# Altium integrated library Renesas Diode.IntLib: 1609 symbols (part 21 of 31)
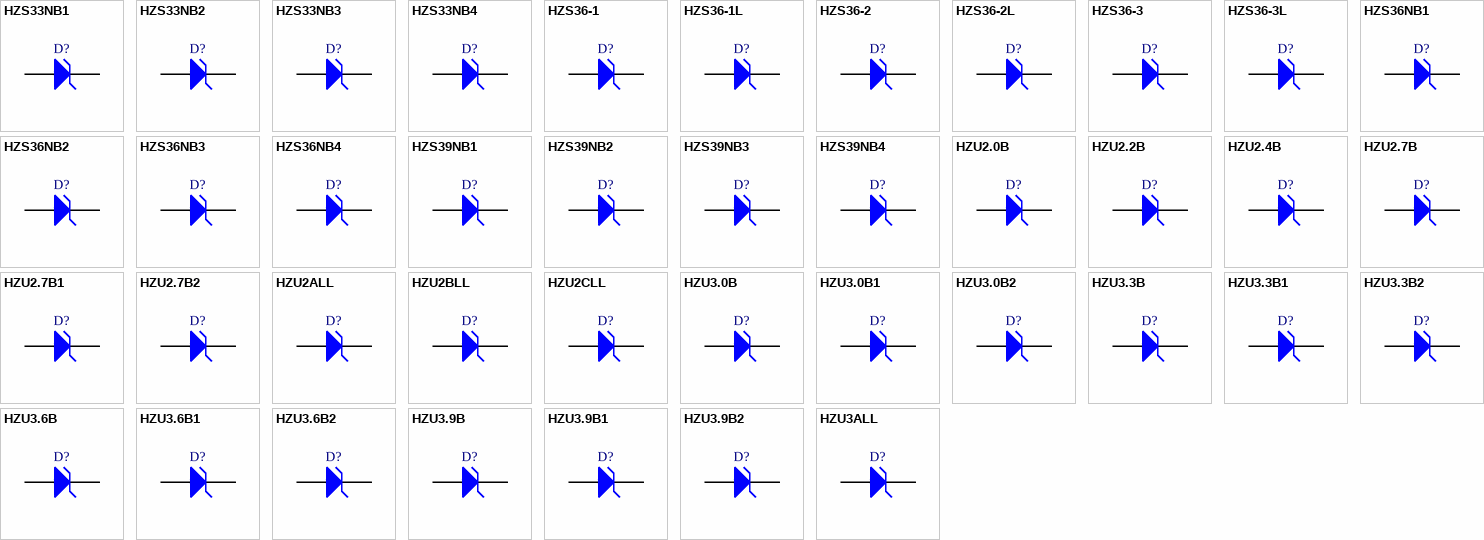
[diagram p65: symbols HZS33NB1 to HZU3ALL]

## HZU2.4B
designator D?
Silicon Epitaxial Planar Zener Diodes for Stabilizer; Published: 12-Feb-2010; DatasheetVersion: Rev.9.00, Jul-2006; PackageVersion: Sep-2005; PackageReference: PTSP0002ZA-A; Publisher: Altium Limited; PackageDescription: 2-Pin SC-76 Package, 1.7 x 1.3 mm Body; Code_JEITA: SC-76A; ComponentLink1Description: Manufacturer Link; ComponentLink1URL: http://sg.renesas.com/fmwk.jsp?cnt=diode_landing.jsp&fp=/products/discrete/diodes/; ComponentLink2Description: Datasheet; ComponentLink2URL: http://documentation.renesas.com/eng/products/diode/rej03g0625_hzu.pdf; ComponentLink3Description: Packaging Specification; ComponentLink3URL: http://sg.renesas.com/media/products/common_info/package/pdf/diode/code/ptsp0002za_a.pdf
footprint PTSP0002ZA-A (SC-76; 2 Leads; Body 1.7x1.3mm, Renesas Recommended)
signal-integrity model HZU2.4B
pins: 1 K, 2 A

## HZU2.7B
designator D?
Silicon Epitaxial Planar Zener Diodes for Stabilizer; Published: 12-Feb-2010; DatasheetVersion: Rev.9.00, Jul-2006; PackageVersion: Sep-2005; PackageReference: PTSP0002ZA-A; Publisher: Altium Limited; PackageDescription: 2-Pin SC-76 Package, 1.7 x 1.3 mm Body; Code_JEITA: SC-76A; ComponentLink1Description: Manufacturer Link; ComponentLink1URL: http://sg.renesas.com/fmwk.jsp?cnt=diode_landing.jsp&fp=/products/discrete/diodes/; ComponentLink2Description: Datasheet; ComponentLink2URL: http://documentation.renesas.com/eng/products/diode/rej03g0625_hzu.pdf; ComponentLink3Description: Packaging Specification; ComponentLink3URL: http://sg.renesas.com/media/products/common_info/package/pdf/diode/code/ptsp0002za_a.pdf
footprint PTSP0002ZA-A (SC-76; 2 Leads; Body 1.7x1.3mm, Renesas Recommended)
signal-integrity model HZU2.7B
pins: 1 K, 2 A

## HZU2.7B1
designator D?
Silicon Epitaxial Planar Zener Diodes for Stabilizer; Published: 12-Feb-2010; DatasheetVersion: Rev.9.00, Jul-2006; PackageVersion: Sep-2005; PackageReference: PTSP0002ZA-A; Publisher: Altium Limited; PackageDescription: 2-Pin SC-76 Package, 1.7 x 1.3 mm Body; Code_JEITA: SC-76A; ComponentLink1Description: Manufacturer Link; ComponentLink1URL: http://sg.renesas.com/fmwk.jsp?cnt=diode_landing.jsp&fp=/products/discrete/diodes/; ComponentLink2Description: Datasheet; ComponentLink2URL: http://documentation.renesas.com/eng/products/diode/rej03g0625_hzu.pdf; ComponentLink3Description: Packaging Specification; ComponentLink3URL: http://sg.renesas.com/media/products/common_info/package/pdf/diode/code/ptsp0002za_a.pdf
footprint PTSP0002ZA-A (SC-76; 2 Leads; Body 1.7x1.3mm, Renesas Recommended)
signal-integrity model HZU2.7B1
pins: 1 K, 2 A

## HZU2.7B2
designator D?
Silicon Epitaxial Planar Zener Diodes for Stabilizer; Published: 12-Feb-2010; DatasheetVersion: Rev.9.00, Jul-2006; PackageVersion: Sep-2005; PackageReference: PTSP0002ZA-A; Publisher: Altium Limited; PackageDescription: 2-Pin SC-76 Package, 1.7 x 1.3 mm Body; Code_JEITA: SC-76A; ComponentLink1Description: Manufacturer Link; ComponentLink1URL: http://sg.renesas.com/fmwk.jsp?cnt=diode_landing.jsp&fp=/products/discrete/diodes/; ComponentLink2Description: Datasheet; ComponentLink2URL: http://documentation.renesas.com/eng/products/diode/rej03g0625_hzu.pdf; ComponentLink3Description: Packaging Specification; ComponentLink3URL: http://sg.renesas.com/media/products/common_info/package/pdf/diode/code/ptsp0002za_a.pdf
footprint PTSP0002ZA-A (SC-76; 2 Leads; Body 1.7x1.3mm, Renesas Recommended)
signal-integrity model HZU2.7B2
pins: 1 K, 2 A

## HZU2ALL
designator D?
Silicon Epitaxial Planar Zener Diode for Hard Knee Low Noise; Published: 12-Feb-2010; DatasheetVersion: Rev.5.00, Oct-2007; PackageVersion: Sep-2005; PackageReference: PTSP0002ZA-A; Publisher: Altium Limited; PackageDescription: 2-Pin SC-76 Package, 1.7 x 1.3 mm Body; Code_JEITA: SC-76A; ComponentLink1Description: Manufacturer Link; ComponentLink1URL: http://sg.renesas.com/fmwk.jsp?cnt=diode_landing.jsp&fp=/products/discrete/diodes/; ComponentLink2Description: Datasheet; ComponentLink2URL: http://documentation.renesas.com/eng/products/diode/rej03g1216_hzu_llseries.pdf; ComponentLink3Description: Packaging Specification; ComponentLink3URL: http://sg.renesas.com/media/products/common_info/package/pdf/diode/code/ptsp0002za_a.pdf
footprint PTSP0002ZA-A (SC-76; 2 Leads; Body 1.7x1.3mm, Renesas Recommended)
signal-integrity model HZU2ALL
pins: 1 K, 2 A

## HZU2BLL
designator D?
Silicon Epitaxial Planar Zener Diode for Hard Knee Low Noise; Published: 12-Feb-2010; DatasheetVersion: Rev.5.00, Oct-2007; PackageVersion: Sep-2005; PackageReference: PTSP0002ZA-A; Publisher: Altium Limited; PackageDescription: 2-Pin SC-76 Package, 1.7 x 1.3 mm Body; Code_JEITA: SC-76A; ComponentLink1Description: Manufacturer Link; ComponentLink1URL: http://sg.renesas.com/fmwk.jsp?cnt=diode_landing.jsp&fp=/products/discrete/diodes/; ComponentLink2Description: Datasheet; ComponentLink2URL: http://documentation.renesas.com/eng/products/diode/rej03g1216_hzu_llseries.pdf; ComponentLink3Description: Packaging Specification; ComponentLink3URL: http://sg.renesas.com/media/products/common_info/package/pdf/diode/code/ptsp0002za_a.pdf
footprint PTSP0002ZA-A (SC-76; 2 Leads; Body 1.7x1.3mm, Renesas Recommended)
signal-integrity model HZU2BLL
pins: 1 K, 2 A

## HZU2CLL
designator D?
Silicon Epitaxial Planar Zener Diode for Hard Knee Low Noise; Published: 12-Feb-2010; DatasheetVersion: Rev.5.00, Oct-2007; PackageVersion: Sep-2005; PackageReference: PTSP0002ZA-A; Publisher: Altium Limited; PackageDescription: 2-Pin SC-76 Package, 1.7 x 1.3 mm Body; Code_JEITA: SC-76A; ComponentLink1Description: Manufacturer Link; ComponentLink1URL: http://sg.renesas.com/fmwk.jsp?cnt=diode_landing.jsp&fp=/products/discrete/diodes/; ComponentLink2Description: Datasheet; ComponentLink2URL: http://documentation.renesas.com/eng/products/diode/rej03g1216_hzu_llseries.pdf; ComponentLink3Description: Packaging Specification; ComponentLink3URL: http://sg.renesas.com/media/products/common_info/package/pdf/diode/code/ptsp0002za_a.pdf
footprint PTSP0002ZA-A (SC-76; 2 Leads; Body 1.7x1.3mm, Renesas Recommended)
signal-integrity model HZU2CLL
pins: 1 K, 2 A

## HZU3.0B
designator D?
Silicon Epitaxial Planar Zener Diodes for Stabilizer; Published: 12-Feb-2010; DatasheetVersion: Rev.9.00, Jul-2006; PackageVersion: Sep-2005; PackageReference: PTSP0002ZA-A; Publisher: Altium Limited; PackageDescription: 2-Pin SC-76 Package, 1.7 x 1.3 mm Body; Code_JEITA: SC-76A; ComponentLink1Description: Manufacturer Link; ComponentLink1URL: http://sg.renesas.com/fmwk.jsp?cnt=diode_landing.jsp&fp=/products/discrete/diodes/; ComponentLink2Description: Datasheet; ComponentLink2URL: http://documentation.renesas.com/eng/products/diode/rej03g0625_hzu.pdf; ComponentLink3Description: Packaging Specification; ComponentLink3URL: http://sg.renesas.com/media/products/common_info/package/pdf/diode/code/ptsp0002za_a.pdf
footprint PTSP0002ZA-A (SC-76; 2 Leads; Body 1.7x1.3mm, Renesas Recommended)
signal-integrity model HZU3.0B
pins: 1 K, 2 A

## HZU3.0B1
designator D?
Silicon Epitaxial Planar Zener Diodes for Stabilizer; Published: 12-Feb-2010; DatasheetVersion: Rev.9.00, Jul-2006; PackageVersion: Sep-2005; PackageReference: PTSP0002ZA-A; Publisher: Altium Limited; PackageDescription: 2-Pin SC-76 Package, 1.7 x 1.3 mm Body; Code_JEITA: SC-76A; ComponentLink1Description: Manufacturer Link; ComponentLink1URL: http://sg.renesas.com/fmwk.jsp?cnt=diode_landing.jsp&fp=/products/discrete/diodes/; ComponentLink2Description: Datasheet; ComponentLink2URL: http://documentation.renesas.com/eng/products/diode/rej03g0625_hzu.pdf; ComponentLink3Description: Packaging Specification; ComponentLink3URL: http://sg.renesas.com/media/products/common_info/package/pdf/diode/code/ptsp0002za_a.pdf
footprint PTSP0002ZA-A (SC-76; 2 Leads; Body 1.7x1.3mm, Renesas Recommended)
signal-integrity model HZU3.0B1
pins: 1 K, 2 A

## HZU3.0B2
designator D?
Silicon Epitaxial Planar Zener Diodes for Stabilizer; Published: 12-Feb-2010; DatasheetVersion: Rev.9.00, Jul-2006; PackageVersion: Sep-2005; PackageReference: PTSP0002ZA-A; Publisher: Altium Limited; PackageDescription: 2-Pin SC-76 Package, 1.7 x 1.3 mm Body; Code_JEITA: SC-76A; ComponentLink1Description: Manufacturer Link; ComponentLink1URL: http://sg.renesas.com/fmwk.jsp?cnt=diode_landing.jsp&fp=/products/discrete/diodes/; ComponentLink2Description: Datasheet; ComponentLink2URL: http://documentation.renesas.com/eng/products/diode/rej03g0625_hzu.pdf; ComponentLink3Description: Packaging Specification; ComponentLink3URL: http://sg.renesas.com/media/products/common_info/package/pdf/diode/code/ptsp0002za_a.pdf
footprint PTSP0002ZA-A (SC-76; 2 Leads; Body 1.7x1.3mm, Renesas Recommended)
signal-integrity model HZU3.0B2
pins: 1 K, 2 A

## HZU3.3B
designator D?
Silicon Epitaxial Planar Zener Diodes for Stabilizer; Published: 12-Feb-2010; DatasheetVersion: Rev.9.00, Jul-2006; PackageVersion: Sep-2005; PackageReference: PTSP0002ZA-A; Publisher: Altium Limited; PackageDescription: 2-Pin SC-76 Package, 1.7 x 1.3 mm Body; Code_JEITA: SC-76A; ComponentLink1Description: Manufacturer Link; ComponentLink1URL: http://sg.renesas.com/fmwk.jsp?cnt=diode_landing.jsp&fp=/products/discrete/diodes/; ComponentLink2Description: Datasheet; ComponentLink2URL: http://documentation.renesas.com/eng/products/diode/rej03g0625_hzu.pdf; ComponentLink3Description: Packaging Specification; ComponentLink3URL: http://sg.renesas.com/media/products/common_info/package/pdf/diode/code/ptsp0002za_a.pdf
footprint PTSP0002ZA-A (SC-76; 2 Leads; Body 1.7x1.3mm, Renesas Recommended)
signal-integrity model HZU3.3B
pins: 1 K, 2 A

## HZU3.3B1
designator D?
Silicon Epitaxial Planar Zener Diodes for Stabilizer; Published: 12-Feb-2010; DatasheetVersion: Rev.9.00, Jul-2006; PackageVersion: Sep-2005; PackageReference: PTSP0002ZA-A; Publisher: Altium Limited; PackageDescription: 2-Pin SC-76 Package, 1.7 x 1.3 mm Body; Code_JEITA: SC-76A; ComponentLink1Description: Manufacturer Link; ComponentLink1URL: http://sg.renesas.com/fmwk.jsp?cnt=diode_landing.jsp&fp=/products/discrete/diodes/; ComponentLink2Description: Datasheet; ComponentLink2URL: http://documentation.renesas.com/eng/products/diode/rej03g0625_hzu.pdf; ComponentLink3Description: Packaging Specification; ComponentLink3URL: http://sg.renesas.com/media/products/common_info/package/pdf/diode/code/ptsp0002za_a.pdf
footprint PTSP0002ZA-A (SC-76; 2 Leads; Body 1.7x1.3mm, Renesas Recommended)
signal-integrity model HZU3.3B1
pins: 1 K, 2 A

## HZU3.3B2
designator D?
Silicon Epitaxial Planar Zener Diodes for Stabilizer; Published: 12-Feb-2010; DatasheetVersion: Rev.9.00, Jul-2006; PackageVersion: Sep-2005; PackageReference: PTSP0002ZA-A; Publisher: Altium Limited; PackageDescription: 2-Pin SC-76 Package, 1.7 x 1.3 mm Body; Code_JEITA: SC-76A; ComponentLink1Description: Manufacturer Link; ComponentLink1URL: http://sg.renesas.com/fmwk.jsp?cnt=diode_landing.jsp&fp=/products/discrete/diodes/; ComponentLink2Description: Datasheet; ComponentLink2URL: http://documentation.renesas.com/eng/products/diode/rej03g0625_hzu.pdf; ComponentLink3Description: Packaging Specification; ComponentLink3URL: http://sg.renesas.com/media/products/common_info/package/pdf/diode/code/ptsp0002za_a.pdf
footprint PTSP0002ZA-A (SC-76; 2 Leads; Body 1.7x1.3mm, Renesas Recommended)
signal-integrity model HZU3.3B2
pins: 1 K, 2 A

## HZU3.6B
designator D?
Silicon Epitaxial Planar Zener Diodes for Stabilizer; Published: 12-Feb-2010; DatasheetVersion: Rev.9.00, Jul-2006; PackageVersion: Sep-2005; PackageReference: PTSP0002ZA-A; Publisher: Altium Limited; PackageDescription: 2-Pin SC-76 Package, 1.7 x 1.3 mm Body; Code_JEITA: SC-76A; ComponentLink1Description: Manufacturer Link; ComponentLink1URL: http://sg.renesas.com/fmwk.jsp?cnt=diode_landing.jsp&fp=/products/discrete/diodes/; ComponentLink2Description: Datasheet; ComponentLink2URL: http://documentation.renesas.com/eng/products/diode/rej03g0625_hzu.pdf; ComponentLink3Description: Packaging Specification; ComponentLink3URL: http://sg.renesas.com/media/products/common_info/package/pdf/diode/code/ptsp0002za_a.pdf
footprint PTSP0002ZA-A (SC-76; 2 Leads; Body 1.7x1.3mm, Renesas Recommended)
signal-integrity model HZU3.6B
pins: 1 K, 2 A

## HZU3.6B1
designator D?
Silicon Epitaxial Planar Zener Diodes for Stabilizer; Published: 12-Feb-2010; DatasheetVersion: Rev.9.00, Jul-2006; PackageVersion: Sep-2005; PackageReference: PTSP0002ZA-A; Publisher: Altium Limited; PackageDescription: 2-Pin SC-76 Package, 1.7 x 1.3 mm Body; Code_JEITA: SC-76A; ComponentLink1Description: Manufacturer Link; ComponentLink1URL: http://sg.renesas.com/fmwk.jsp?cnt=diode_landing.jsp&fp=/products/discrete/diodes/; ComponentLink2Description: Datasheet; ComponentLink2URL: http://documentation.renesas.com/eng/products/diode/rej03g0625_hzu.pdf; ComponentLink3Description: Packaging Specification; ComponentLink3URL: http://sg.renesas.com/media/products/common_info/package/pdf/diode/code/ptsp0002za_a.pdf
footprint PTSP0002ZA-A (SC-76; 2 Leads; Body 1.7x1.3mm, Renesas Recommended)
signal-integrity model HZU3.6B1
pins: 1 K, 2 A

## HZU3.6B2
designator D?
Silicon Epitaxial Planar Zener Diodes for Stabilizer; Published: 12-Feb-2010; DatasheetVersion: Rev.9.00, Jul-2006; PackageVersion: Sep-2005; PackageReference: PTSP0002ZA-A; Publisher: Altium Limited; PackageDescription: 2-Pin SC-76 Package, 1.7 x 1.3 mm Body; Code_JEITA: SC-76A; ComponentLink1Description: Manufacturer Link; ComponentLink1URL: http://sg.renesas.com/fmwk.jsp?cnt=diode_landing.jsp&fp=/products/discrete/diodes/; ComponentLink2Description: Datasheet; ComponentLink2URL: http://documentation.renesas.com/eng/products/diode/rej03g0625_hzu.pdf; ComponentLink3Description: Packaging Specification; ComponentLink3URL: http://sg.renesas.com/media/products/common_info/package/pdf/diode/code/ptsp0002za_a.pdf
footprint PTSP0002ZA-A (SC-76; 2 Leads; Body 1.7x1.3mm, Renesas Recommended)
signal-integrity model HZU3.6B2
pins: 1 K, 2 A

## HZU3.9B
designator D?
Silicon Epitaxial Planar Zener Diodes for Stabilizer; Published: 12-Feb-2010; DatasheetVersion: Rev.9.00, Jul-2006; PackageVersion: Sep-2005; PackageReference: PTSP0002ZA-A; Publisher: Altium Limited; PackageDescription: 2-Pin SC-76 Package, 1.7 x 1.3 mm Body; Code_JEITA: SC-76A; ComponentLink1Description: Manufacturer Link; ComponentLink1URL: http://sg.renesas.com/fmwk.jsp?cnt=diode_landing.jsp&fp=/products/discrete/diodes/; ComponentLink2Description: Datasheet; ComponentLink2URL: http://documentation.renesas.com/eng/products/diode/rej03g0625_hzu.pdf; ComponentLink3Description: Packaging Specification; ComponentLink3URL: http://sg.renesas.com/media/products/common_info/package/pdf/diode/code/ptsp0002za_a.pdf
footprint PTSP0002ZA-A (SC-76; 2 Leads; Body 1.7x1.3mm, Renesas Recommended)
signal-integrity model HZU3.9B
pins: 1 K, 2 A

## HZU3.9B1
designator D?
Silicon Epitaxial Planar Zener Diodes for Stabilizer; Published: 12-Feb-2010; DatasheetVersion: Rev.9.00, Jul-2006; PackageVersion: Sep-2005; PackageReference: PTSP0002ZA-A; Publisher: Altium Limited; PackageDescription: 2-Pin SC-76 Package, 1.7 x 1.3 mm Body; Code_JEITA: SC-76A; ComponentLink1Description: Manufacturer Link; ComponentLink1URL: http://sg.renesas.com/fmwk.jsp?cnt=diode_landing.jsp&fp=/products/discrete/diodes/; ComponentLink2Description: Datasheet; ComponentLink2URL: http://documentation.renesas.com/eng/products/diode/rej03g0625_hzu.pdf; ComponentLink3Description: Packaging Specification; ComponentLink3URL: http://sg.renesas.com/media/products/common_info/package/pdf/diode/code/ptsp0002za_a.pdf
footprint PTSP0002ZA-A (SC-76; 2 Leads; Body 1.7x1.3mm, Renesas Recommended)
signal-integrity model HZU3.9B1
pins: 1 K, 2 A

## HZU3.9B2
designator D?
Silicon Epitaxial Planar Zener Diodes for Stabilizer; Published: 12-Feb-2010; DatasheetVersion: Rev.9.00, Jul-2006; PackageVersion: Sep-2005; PackageReference: PTSP0002ZA-A; Publisher: Altium Limited; PackageDescription: 2-Pin SC-76 Package, 1.7 x 1.3 mm Body; Code_JEITA: SC-76A; ComponentLink1Description: Manufacturer Link; ComponentLink1URL: http://sg.renesas.com/fmwk.jsp?cnt=diode_landing.jsp&fp=/products/discrete/diodes/; ComponentLink2Description: Datasheet; ComponentLink2URL: http://documentation.renesas.com/eng/products/diode/rej03g0625_hzu.pdf; ComponentLink3Description: Packaging Specification; ComponentLink3URL: http://sg.renesas.com/media/products/common_info/package/pdf/diode/code/ptsp0002za_a.pdf
footprint PTSP0002ZA-A (SC-76; 2 Leads; Body 1.7x1.3mm, Renesas Recommended)
signal-integrity model HZU3.9B2
pins: 1 K, 2 A

## HZU3ALL
designator D?
Silicon Epitaxial Planar Zener Diode for Hard Knee Low Noise; Published: 12-Feb-2010; DatasheetVersion: Rev.5.00, Oct-2007; PackageVersion: Sep-2005; PackageReference: PTSP0002ZA-A; Publisher: Altium Limited; PackageDescription: 2-Pin SC-76 Package, 1.7 x 1.3 mm Body; Code_JEITA: SC-76A; ComponentLink1Description: Manufacturer Link; ComponentLink1URL: http://sg.renesas.com/fmwk.jsp?cnt=diode_landing.jsp&fp=/products/discrete/diodes/; ComponentLink2Description: Datasheet; ComponentLink2URL: http://documentation.renesas.com/eng/products/diode/rej03g1216_hzu_llseries.pdf; ComponentLink3Description: Packaging Specification; ComponentLink3URL: http://sg.renesas.com/media/products/common_info/package/pdf/diode/code/ptsp0002za_a.pdf
footprint PTSP0002ZA-A (SC-76; 2 Leads; Body 1.7x1.3mm, Renesas Recommended)
signal-integrity model HZU3ALL
pins: 1 K, 2 A

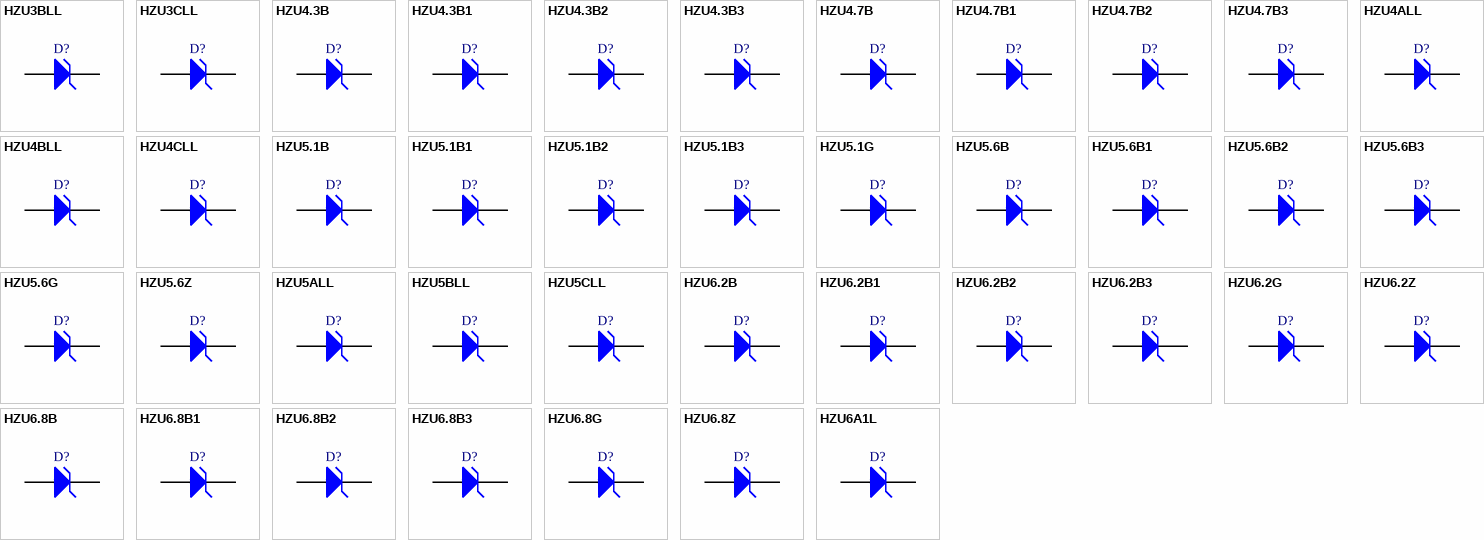
[diagram p29: symbols HZU3BLL to HZU6A1L]

## HZU3BLL
designator D?
Silicon Epitaxial Planar Zener Diode for Hard Knee Low Noise; Published: 12-Feb-2010; DatasheetVersion: Rev.5.00, Oct-2007; PackageVersion: Sep-2005; PackageReference: PTSP0002ZA-A; Publisher: Altium Limited; PackageDescription: 2-Pin SC-76 Package, 1.7 x 1.3 mm Body; Code_JEITA: SC-76A; ComponentLink1Description: Manufacturer Link; ComponentLink1URL: http://sg.renesas.com/fmwk.jsp?cnt=diode_landing.jsp&fp=/products/discrete/diodes/; ComponentLink2Description: Datasheet; ComponentLink2URL: http://documentation.renesas.com/eng/products/diode/rej03g1216_hzu_llseries.pdf; ComponentLink3Description: Packaging Specification; ComponentLink3URL: http://sg.renesas.com/media/products/common_info/package/pdf/diode/code/ptsp0002za_a.pdf
footprint PTSP0002ZA-A (SC-76; 2 Leads; Body 1.7x1.3mm, Renesas Recommended)
signal-integrity model HZU3BLL
pins: 1 K, 2 A

## HZU3CLL
designator D?
Silicon Epitaxial Planar Zener Diode for Hard Knee Low Noise; Published: 12-Feb-2010; DatasheetVersion: Rev.5.00, Oct-2007; PackageVersion: Sep-2005; PackageReference: PTSP0002ZA-A; Publisher: Altium Limited; PackageDescription: 2-Pin SC-76 Package, 1.7 x 1.3 mm Body; Code_JEITA: SC-76A; ComponentLink1Description: Manufacturer Link; ComponentLink1URL: http://sg.renesas.com/fmwk.jsp?cnt=diode_landing.jsp&fp=/products/discrete/diodes/; ComponentLink2Description: Datasheet; ComponentLink2URL: http://documentation.renesas.com/eng/products/diode/rej03g1216_hzu_llseries.pdf; ComponentLink3Description: Packaging Specification; ComponentLink3URL: http://sg.renesas.com/media/products/common_info/package/pdf/diode/code/ptsp0002za_a.pdf
footprint PTSP0002ZA-A (SC-76; 2 Leads; Body 1.7x1.3mm, Renesas Recommended)
signal-integrity model HZU3CLL
pins: 1 K, 2 A

## HZU4.3B
designator D?
Silicon Epitaxial Planar Zener Diodes for Stabilizer; Published: 12-Feb-2010; DatasheetVersion: Rev.9.00, Jul-2006; PackageVersion: Sep-2005; PackageReference: PTSP0002ZA-A; Publisher: Altium Limited; PackageDescription: 2-Pin SC-76 Package, 1.7 x 1.3 mm Body; Code_JEITA: SC-76A; ComponentLink1Description: Manufacturer Link; ComponentLink1URL: http://sg.renesas.com/fmwk.jsp?cnt=diode_landing.jsp&fp=/products/discrete/diodes/; ComponentLink2Description: Datasheet; ComponentLink2URL: http://documentation.renesas.com/eng/products/diode/rej03g0625_hzu.pdf; ComponentLink3Description: Packaging Specification; ComponentLink3URL: http://sg.renesas.com/media/products/common_info/package/pdf/diode/code/ptsp0002za_a.pdf
footprint PTSP0002ZA-A (SC-76; 2 Leads; Body 1.7x1.3mm, Renesas Recommended)
signal-integrity model HZU4.3B
pins: 1 K, 2 A

## HZU4.3B1
designator D?
Silicon Epitaxial Planar Zener Diodes for Stabilizer; Published: 12-Feb-2010; DatasheetVersion: Rev.9.00, Jul-2006; PackageVersion: Sep-2005; PackageReference: PTSP0002ZA-A; Publisher: Altium Limited; PackageDescription: 2-Pin SC-76 Package, 1.7 x 1.3 mm Body; Code_JEITA: SC-76A; ComponentLink1Description: Manufacturer Link; ComponentLink1URL: http://sg.renesas.com/fmwk.jsp?cnt=diode_landing.jsp&fp=/products/discrete/diodes/; ComponentLink2Description: Datasheet; ComponentLink2URL: http://documentation.renesas.com/eng/products/diode/rej03g0625_hzu.pdf; ComponentLink3Description: Packaging Specification; ComponentLink3URL: http://sg.renesas.com/media/products/common_info/package/pdf/diode/code/ptsp0002za_a.pdf
footprint PTSP0002ZA-A (SC-76; 2 Leads; Body 1.7x1.3mm, Renesas Recommended)
signal-integrity model HZU4.3B1
pins: 1 K, 2 A

## HZU4.3B2
designator D?
Silicon Epitaxial Planar Zener Diodes for Stabilizer; Published: 12-Feb-2010; DatasheetVersion: Rev.9.00, Jul-2006; PackageVersion: Sep-2005; PackageReference: PTSP0002ZA-A; Publisher: Altium Limited; PackageDescription: 2-Pin SC-76 Package, 1.7 x 1.3 mm Body; Code_JEITA: SC-76A; ComponentLink1Description: Manufacturer Link; ComponentLink1URL: http://sg.renesas.com/fmwk.jsp?cnt=diode_landing.jsp&fp=/products/discrete/diodes/; ComponentLink2Description: Datasheet; ComponentLink2URL: http://documentation.renesas.com/eng/products/diode/rej03g0625_hzu.pdf; ComponentLink3Description: Packaging Specification; ComponentLink3URL: http://sg.renesas.com/media/products/common_info/package/pdf/diode/code/ptsp0002za_a.pdf
footprint PTSP0002ZA-A (SC-76; 2 Leads; Body 1.7x1.3mm, Renesas Recommended)
signal-integrity model HZU4.3B2
pins: 1 K, 2 A

## HZU4.3B3
designator D?
Silicon Epitaxial Planar Zener Diodes for Stabilizer; Published: 12-Feb-2010; DatasheetVersion: Rev.9.00, Jul-2006; PackageVersion: Sep-2005; PackageReference: PTSP0002ZA-A; Publisher: Altium Limited; PackageDescription: 2-Pin SC-76 Package, 1.7 x 1.3 mm Body; Code_JEITA: SC-76A; ComponentLink1Description: Manufacturer Link; ComponentLink1URL: http://sg.renesas.com/fmwk.jsp?cnt=diode_landing.jsp&fp=/products/discrete/diodes/; ComponentLink2Description: Datasheet; ComponentLink2URL: http://documentation.renesas.com/eng/products/diode/rej03g0625_hzu.pdf; ComponentLink3Description: Packaging Specification; ComponentLink3URL: http://sg.renesas.com/media/products/common_info/package/pdf/diode/code/ptsp0002za_a.pdf
footprint PTSP0002ZA-A (SC-76; 2 Leads; Body 1.7x1.3mm, Renesas Recommended)
signal-integrity model HZU4.3B3
pins: 1 K, 2 A

## HZU4.7B
designator D?
Silicon Epitaxial Planar Zener Diodes for Stabilizer; Published: 12-Feb-2010; DatasheetVersion: Rev.9.00, Jul-2006; PackageVersion: Sep-2005; PackageReference: PTSP0002ZA-A; Publisher: Altium Limited; PackageDescription: 2-Pin SC-76 Package, 1.7 x 1.3 mm Body; Code_JEITA: SC-76A; ComponentLink1Description: Manufacturer Link; ComponentLink1URL: http://sg.renesas.com/fmwk.jsp?cnt=diode_landing.jsp&fp=/products/discrete/diodes/; ComponentLink2Description: Datasheet; ComponentLink2URL: http://documentation.renesas.com/eng/products/diode/rej03g0625_hzu.pdf; ComponentLink3Description: Packaging Specification; ComponentLink3URL: http://sg.renesas.com/media/products/common_info/package/pdf/diode/code/ptsp0002za_a.pdf
footprint PTSP0002ZA-A (SC-76; 2 Leads; Body 1.7x1.3mm, Renesas Recommended)
signal-integrity model HZU4.7B
pins: 1 K, 2 A

## HZU4.7B1
designator D?
Silicon Epitaxial Planar Zener Diodes for Stabilizer; Published: 12-Feb-2010; DatasheetVersion: Rev.9.00, Jul-2006; PackageVersion: Sep-2005; PackageReference: PTSP0002ZA-A; Publisher: Altium Limited; PackageDescription: 2-Pin SC-76 Package, 1.7 x 1.3 mm Body; Code_JEITA: SC-76A; ComponentLink1Description: Manufacturer Link; ComponentLink1URL: http://sg.renesas.com/fmwk.jsp?cnt=diode_landing.jsp&fp=/products/discrete/diodes/; ComponentLink2Description: Datasheet; ComponentLink2URL: http://documentation.renesas.com/eng/products/diode/rej03g0625_hzu.pdf; ComponentLink3Description: Packaging Specification; ComponentLink3URL: http://sg.renesas.com/media/products/common_info/package/pdf/diode/code/ptsp0002za_a.pdf
footprint PTSP0002ZA-A (SC-76; 2 Leads; Body 1.7x1.3mm, Renesas Recommended)
signal-integrity model HZU4.7B1
pins: 1 K, 2 A

## HZU4.7B2
designator D?
Silicon Epitaxial Planar Zener Diodes for Stabilizer; Published: 12-Feb-2010; DatasheetVersion: Rev.9.00, Jul-2006; PackageVersion: Sep-2005; PackageReference: PTSP0002ZA-A; Publisher: Altium Limited; PackageDescription: 2-Pin SC-76 Package, 1.7 x 1.3 mm Body; Code_JEITA: SC-76A; ComponentLink1Description: Manufacturer Link; ComponentLink1URL: http://sg.renesas.com/fmwk.jsp?cnt=diode_landing.jsp&fp=/products/discrete/diodes/; ComponentLink2Description: Datasheet; ComponentLink2URL: http://documentation.renesas.com/eng/products/diode/rej03g0625_hzu.pdf; ComponentLink3Description: Packaging Specification; ComponentLink3URL: http://sg.renesas.com/media/products/common_info/package/pdf/diode/code/ptsp0002za_a.pdf
footprint PTSP0002ZA-A (SC-76; 2 Leads; Body 1.7x1.3mm, Renesas Recommended)
signal-integrity model HZU4.7B2
pins: 1 K, 2 A

## HZU4.7B3
designator D?
Silicon Epitaxial Planar Zener Diodes for Stabilizer; Published: 12-Feb-2010; DatasheetVersion: Rev.9.00, Jul-2006; PackageVersion: Sep-2005; PackageReference: PTSP0002ZA-A; Publisher: Altium Limited; PackageDescription: 2-Pin SC-76 Package, 1.7 x 1.3 mm Body; Code_JEITA: SC-76A; ComponentLink1Description: Manufacturer Link; ComponentLink1URL: http://sg.renesas.com/fmwk.jsp?cnt=diode_landing.jsp&fp=/products/discrete/diodes/; ComponentLink2Description: Datasheet; ComponentLink2URL: http://documentation.renesas.com/eng/products/diode/rej03g0625_hzu.pdf; ComponentLink3Description: Packaging Specification; ComponentLink3URL: http://sg.renesas.com/media/products/common_info/package/pdf/diode/code/ptsp0002za_a.pdf
footprint PTSP0002ZA-A (SC-76; 2 Leads; Body 1.7x1.3mm, Renesas Recommended)
signal-integrity model HZU4.7B3
pins: 1 K, 2 A

## HZU4ALL
designator D?
Silicon Epitaxial Planar Zener Diode for Hard Knee Low Noise; Published: 12-Feb-2010; DatasheetVersion: Rev.5.00, Oct-2007; PackageVersion: Sep-2005; PackageReference: PTSP0002ZA-A; Publisher: Altium Limited; PackageDescription: 2-Pin SC-76 Package, 1.7 x 1.3 mm Body; Code_JEITA: SC-76A; ComponentLink1Description: Manufacturer Link; ComponentLink1URL: http://sg.renesas.com/fmwk.jsp?cnt=diode_landing.jsp&fp=/products/discrete/diodes/; ComponentLink2Description: Datasheet; ComponentLink2URL: http://documentation.renesas.com/eng/products/diode/rej03g1216_hzu_llseries.pdf; ComponentLink3Description: Packaging Specification; ComponentLink3URL: http://sg.renesas.com/media/products/common_info/package/pdf/diode/code/ptsp0002za_a.pdf
footprint PTSP0002ZA-A (SC-76; 2 Leads; Body 1.7x1.3mm, Renesas Recommended)
signal-integrity model HZU4ALL
pins: 1 K, 2 A

## HZU4BLL
designator D?
Silicon Epitaxial Planar Zener Diode for Hard Knee Low Noise; Published: 12-Feb-2010; DatasheetVersion: Rev.5.00, Oct-2007; PackageVersion: Sep-2005; PackageReference: PTSP0002ZA-A; Publisher: Altium Limited; PackageDescription: 2-Pin SC-76 Package, 1.7 x 1.3 mm Body; Code_JEITA: SC-76A; ComponentLink1Description: Manufacturer Link; ComponentLink1URL: http://sg.renesas.com/fmwk.jsp?cnt=diode_landing.jsp&fp=/products/discrete/diodes/; ComponentLink2Description: Datasheet; ComponentLink2URL: http://documentation.renesas.com/eng/products/diode/rej03g1216_hzu_llseries.pdf; ComponentLink3Description: Packaging Specification; ComponentLink3URL: http://sg.renesas.com/media/products/common_info/package/pdf/diode/code/ptsp0002za_a.pdf
footprint PTSP0002ZA-A (SC-76; 2 Leads; Body 1.7x1.3mm, Renesas Recommended)
signal-integrity model HZU4BLL
pins: 1 K, 2 A

## HZU4CLL
designator D?
Silicon Epitaxial Planar Zener Diode for Hard Knee Low Noise; Published: 12-Feb-2010; DatasheetVersion: Rev.5.00, Oct-2007; PackageVersion: Sep-2005; PackageReference: PTSP0002ZA-A; Publisher: Altium Limited; PackageDescription: 2-Pin SC-76 Package, 1.7 x 1.3 mm Body; Code_JEITA: SC-76A; ComponentLink1Description: Manufacturer Link; ComponentLink1URL: http://sg.renesas.com/fmwk.jsp?cnt=diode_landing.jsp&fp=/products/discrete/diodes/; ComponentLink2Description: Datasheet; ComponentLink2URL: http://documentation.renesas.com/eng/products/diode/rej03g1216_hzu_llseries.pdf; ComponentLink3Description: Packaging Specification; ComponentLink3URL: http://sg.renesas.com/media/products/common_info/package/pdf/diode/code/ptsp0002za_a.pdf
footprint PTSP0002ZA-A (SC-76; 2 Leads; Body 1.7x1.3mm, Renesas Recommended)
signal-integrity model HZU4CLL
pins: 1 K, 2 A

## HZU5.1B
designator D?
Silicon Epitaxial Planar Zener Diodes for Stabilizer; Published: 12-Feb-2010; DatasheetVersion: Rev.9.00, Jul-2006; PackageVersion: Sep-2005; PackageReference: PTSP0002ZA-A; Publisher: Altium Limited; PackageDescription: 2-Pin SC-76 Package, 1.7 x 1.3 mm Body; Code_JEITA: SC-76A; ComponentLink1Description: Manufacturer Link; ComponentLink1URL: http://sg.renesas.com/fmwk.jsp?cnt=diode_landing.jsp&fp=/products/discrete/diodes/; ComponentLink2Description: Datasheet; ComponentLink2URL: http://documentation.renesas.com/eng/products/diode/rej03g0625_hzu.pdf; ComponentLink3Description: Packaging Specification; ComponentLink3URL: http://sg.renesas.com/media/products/common_info/package/pdf/diode/code/ptsp0002za_a.pdf
footprint PTSP0002ZA-A (SC-76; 2 Leads; Body 1.7x1.3mm, Renesas Recommended)
signal-integrity model HZU5.1B
pins: 1 K, 2 A

## HZU5.1B1
designator D?
Silicon Epitaxial Planar Zener Diodes for Stabilizer; Published: 12-Feb-2010; DatasheetVersion: Rev.9.00, Jul-2006; PackageVersion: Sep-2005; PackageReference: PTSP0002ZA-A; Publisher: Altium Limited; PackageDescription: 2-Pin SC-76 Package, 1.7 x 1.3 mm Body; Code_JEITA: SC-76A; ComponentLink1Description: Manufacturer Link; ComponentLink1URL: http://sg.renesas.com/fmwk.jsp?cnt=diode_landing.jsp&fp=/products/discrete/diodes/; ComponentLink2Description: Datasheet; ComponentLink2URL: http://documentation.renesas.com/eng/products/diode/rej03g0625_hzu.pdf; ComponentLink3Description: Packaging Specification; ComponentLink3URL: http://sg.renesas.com/media/products/common_info/package/pdf/diode/code/ptsp0002za_a.pdf
footprint PTSP0002ZA-A (SC-76; 2 Leads; Body 1.7x1.3mm, Renesas Recommended)
signal-integrity model HZU5.1B1
pins: 1 K, 2 A

## HZU5.1B2
designator D?
Silicon Epitaxial Planar Zener Diodes for Stabilizer; Published: 12-Feb-2010; DatasheetVersion: Rev.9.00, Jul-2006; PackageVersion: Sep-2005; PackageReference: PTSP0002ZA-A; Publisher: Altium Limited; PackageDescription: 2-Pin SC-76 Package, 1.7 x 1.3 mm Body; Code_JEITA: SC-76A; ComponentLink1Description: Manufacturer Link; ComponentLink1URL: http://sg.renesas.com/fmwk.jsp?cnt=diode_landing.jsp&fp=/products/discrete/diodes/; ComponentLink2Description: Datasheet; ComponentLink2URL: http://documentation.renesas.com/eng/products/diode/rej03g0625_hzu.pdf; ComponentLink3Description: Packaging Specification; ComponentLink3URL: http://sg.renesas.com/media/products/common_info/package/pdf/diode/code/ptsp0002za_a.pdf
footprint PTSP0002ZA-A (SC-76; 2 Leads; Body 1.7x1.3mm, Renesas Recommended)
signal-integrity model HZU5.1B2
pins: 1 K, 2 A

## HZU5.1B3
designator D?
Silicon Epitaxial Planar Zener Diodes for Stabilizer; Published: 12-Feb-2010; DatasheetVersion: Rev.9.00, Jul-2006; PackageVersion: Sep-2005; PackageReference: PTSP0002ZA-A; Publisher: Altium Limited; PackageDescription: 2-Pin SC-76 Package, 1.7 x 1.3 mm Body; Code_JEITA: SC-76A; ComponentLink1Description: Manufacturer Link; ComponentLink1URL: http://sg.renesas.com/fmwk.jsp?cnt=diode_landing.jsp&fp=/products/discrete/diodes/; ComponentLink2Description: Datasheet; ComponentLink2URL: http://documentation.renesas.com/eng/products/diode/rej03g0625_hzu.pdf; ComponentLink3Description: Packaging Specification; ComponentLink3URL: http://sg.renesas.com/media/products/common_info/package/pdf/diode/code/ptsp0002za_a.pdf
footprint PTSP0002ZA-A (SC-76; 2 Leads; Body 1.7x1.3mm, Renesas Recommended)
signal-integrity model HZU5.1B3
pins: 1 K, 2 A

## HZU5.1G
designator D?
Silicon Epitaxial Planar Zener Diode for Surge Absorption; Published: 12-Feb-2010; DatasheetVersion: Rev.3.00, Jun-2006; PackageVersion: Sep-2005; PackageReference: PTSP0002ZA-A; Publisher: Altium Limited; PackageDescription: 2-Pin SC-76 Package, 1.7 x 1.3 mm Body; Code_JEITA: SC-76A; ComponentLink1Description: Manufacturer Link; ComponentLink1URL: http://sg.renesas.com/fmwk.jsp?cnt=diode_landing.jsp&fp=/products/discrete/diodes/; ComponentLink2Description: Datasheet; ComponentLink2URL: http://documentation.renesas.com/eng/products/diode/rej03g1215_hzu_g.pdf; ComponentLink3Description: Packaging Specification; ComponentLink3URL: http://sg.renesas.com/media/products/common_info/package/pdf/diode/code/ptsp0002za_a.pdf
footprint PTSP0002ZA-A (SC-76; 2 Leads; Body 1.7x1.3mm, Renesas Recommended)
signal-integrity model HZU5.1G
pins: 1 K, 2 A

## HZU5.6B
designator D?
Silicon Epitaxial Planar Zener Diodes for Stabilizer; Published: 12-Feb-2010; DatasheetVersion: Rev.9.00, Jul-2006; PackageVersion: Sep-2005; PackageReference: PTSP0002ZA-A; Publisher: Altium Limited; PackageDescription: 2-Pin SC-76 Package, 1.7 x 1.3 mm Body; Code_JEITA: SC-76A; ComponentLink1Description: Manufacturer Link; ComponentLink1URL: http://sg.renesas.com/fmwk.jsp?cnt=diode_landing.jsp&fp=/products/discrete/diodes/; ComponentLink2Description: Datasheet; ComponentLink2URL: http://documentation.renesas.com/eng/products/diode/rej03g0625_hzu.pdf; ComponentLink3Description: Packaging Specification; ComponentLink3URL: http://sg.renesas.com/media/products/common_info/package/pdf/diode/code/ptsp0002za_a.pdf
footprint PTSP0002ZA-A (SC-76; 2 Leads; Body 1.7x1.3mm, Renesas Recommended)
signal-integrity model HZU5.6B
pins: 1 K, 2 A

## HZU5.6B1
designator D?
Silicon Epitaxial Planar Zener Diodes for Stabilizer; Published: 12-Feb-2010; DatasheetVersion: Rev.9.00, Jul-2006; PackageVersion: Sep-2005; PackageReference: PTSP0002ZA-A; Publisher: Altium Limited; PackageDescription: 2-Pin SC-76 Package, 1.7 x 1.3 mm Body; Code_JEITA: SC-76A; ComponentLink1Description: Manufacturer Link; ComponentLink1URL: http://sg.renesas.com/fmwk.jsp?cnt=diode_landing.jsp&fp=/products/discrete/diodes/; ComponentLink2Description: Datasheet; ComponentLink2URL: http://documentation.renesas.com/eng/products/diode/rej03g0625_hzu.pdf; ComponentLink3Description: Packaging Specification; ComponentLink3URL: http://sg.renesas.com/media/products/common_info/package/pdf/diode/code/ptsp0002za_a.pdf
footprint PTSP0002ZA-A (SC-76; 2 Leads; Body 1.7x1.3mm, Renesas Recommended)
signal-integrity model HZU5.6B1
pins: 1 K, 2 A

## HZU5.6B2
designator D?
Silicon Epitaxial Planar Zener Diodes for Stabilizer; Published: 12-Feb-2010; DatasheetVersion: Rev.9.00, Jul-2006; PackageVersion: Sep-2005; PackageReference: PTSP0002ZA-A; Publisher: Altium Limited; PackageDescription: 2-Pin SC-76 Package, 1.7 x 1.3 mm Body; Code_JEITA: SC-76A; ComponentLink1Description: Manufacturer Link; ComponentLink1URL: http://sg.renesas.com/fmwk.jsp?cnt=diode_landing.jsp&fp=/products/discrete/diodes/; ComponentLink2Description: Datasheet; ComponentLink2URL: http://documentation.renesas.com/eng/products/diode/rej03g0625_hzu.pdf; ComponentLink3Description: Packaging Specification; ComponentLink3URL: http://sg.renesas.com/media/products/common_info/package/pdf/diode/code/ptsp0002za_a.pdf
footprint PTSP0002ZA-A (SC-76; 2 Leads; Body 1.7x1.3mm, Renesas Recommended)
signal-integrity model HZU5.6B2
pins: 1 K, 2 A

## HZU5.6B3
designator D?
Silicon Epitaxial Planar Zener Diodes for Stabilizer; Published: 12-Feb-2010; DatasheetVersion: Rev.9.00, Jul-2006; PackageVersion: Sep-2005; PackageReference: PTSP0002ZA-A; Publisher: Altium Limited; PackageDescription: 2-Pin SC-76 Package, 1.7 x 1.3 mm Body; Code_JEITA: SC-76A; ComponentLink1Description: Manufacturer Link; ComponentLink1URL: http://sg.renesas.com/fmwk.jsp?cnt=diode_landing.jsp&fp=/products/discrete/diodes/; ComponentLink2Description: Datasheet; ComponentLink2URL: http://documentation.renesas.com/eng/products/diode/rej03g0625_hzu.pdf; ComponentLink3Description: Packaging Specification; ComponentLink3URL: http://sg.renesas.com/media/products/common_info/package/pdf/diode/code/ptsp0002za_a.pdf
footprint PTSP0002ZA-A (SC-76; 2 Leads; Body 1.7x1.3mm, Renesas Recommended)
signal-integrity model HZU5.6B3
pins: 1 K, 2 A

## HZU5.6G
designator D?
Silicon Epitaxial Planar Zener Diode for Surge Absorption; Published: 12-Feb-2010; DatasheetVersion: Rev.3.00, Jun-2006; PackageVersion: Sep-2005; PackageReference: PTSP0002ZA-A; Publisher: Altium Limited; PackageDescription: 2-Pin SC-76 Package, 1.7 x 1.3 mm Body; Code_JEITA: SC-76A; ComponentLink1Description: Manufacturer Link; ComponentLink1URL: http://sg.renesas.com/fmwk.jsp?cnt=diode_landing.jsp&fp=/products/discrete/diodes/; ComponentLink2Description: Datasheet; ComponentLink2URL: http://documentation.renesas.com/eng/products/diode/rej03g1215_hzu_g.pdf; ComponentLink3Description: Packaging Specification; ComponentLink3URL: http://sg.renesas.com/media/products/common_info/package/pdf/diode/code/ptsp0002za_a.pdf
footprint PTSP0002ZA-A (SC-76; 2 Leads; Body 1.7x1.3mm, Renesas Recommended)
signal-integrity model HZU5.6G
pins: 1 K, 2 A

## HZU5.6Z
designator D?
Silicon Epitaxial Planar Zener Diode for Surge Absorption; Published: 12-Feb-2010; DatasheetVersion: Rev.2.00, Jun-2005; PackageVersion: Sep-2005; PackageReference: PTSP0002ZA-A; Publisher: Altium Limited; PackageDescription: 2-Pin SC-76 Package, 1.7 x 1.3 mm Body; Code_JEITA: SC-76A; ComponentLink1Description: Manufacturer Link; ComponentLink1URL: http://sg.renesas.com/fmwk.jsp?cnt=diode_landing.jsp&fp=/products/discrete/diodes/; ComponentLink2Description: Datasheet; ComponentLink2URL: http://documentation.renesas.com/eng/products/diode/rej03g1217_hzu56z.pdf; ComponentLink3Description: Packaging Specification; ComponentLink3URL: http://sg.renesas.com/media/products/common_info/package/pdf/diode/code/ptsp0002za_a.pdf
footprint PTSP0002ZA-A (SC-76; 2 Leads; Body 1.7x1.3mm, Renesas Recommended)
signal-integrity model HZU5.6Z
pins: 1 K, 2 A

## HZU5ALL
designator D?
Silicon Epitaxial Planar Zener Diode for Hard Knee Low Noise; Published: 12-Feb-2010; DatasheetVersion: Rev.5.00, Oct-2007; PackageVersion: Sep-2005; PackageReference: PTSP0002ZA-A; Publisher: Altium Limited; PackageDescription: 2-Pin SC-76 Package, 1.7 x 1.3 mm Body; Code_JEITA: SC-76A; ComponentLink1Description: Manufacturer Link; ComponentLink1URL: http://sg.renesas.com/fmwk.jsp?cnt=diode_landing.jsp&fp=/products/discrete/diodes/; ComponentLink2Description: Datasheet; ComponentLink2URL: http://documentation.renesas.com/eng/products/diode/rej03g1216_hzu_llseries.pdf; ComponentLink3Description: Packaging Specification; ComponentLink3URL: http://sg.renesas.com/media/products/common_info/package/pdf/diode/code/ptsp0002za_a.pdf
footprint PTSP0002ZA-A (SC-76; 2 Leads; Body 1.7x1.3mm, Renesas Recommended)
signal-integrity model HZU5ALL
pins: 1 K, 2 A

## HZU5BLL
designator D?
Silicon Epitaxial Planar Zener Diode for Hard Knee Low Noise; Published: 12-Feb-2010; DatasheetVersion: Rev.5.00, Oct-2007; PackageVersion: Sep-2005; PackageReference: PTSP0002ZA-A; Publisher: Altium Limited; PackageDescription: 2-Pin SC-76 Package, 1.7 x 1.3 mm Body; Code_JEITA: SC-76A; ComponentLink1Description: Manufacturer Link; ComponentLink1URL: http://sg.renesas.com/fmwk.jsp?cnt=diode_landing.jsp&fp=/products/discrete/diodes/; ComponentLink2Description: Datasheet; ComponentLink2URL: http://documentation.renesas.com/eng/products/diode/rej03g1216_hzu_llseries.pdf; ComponentLink3Description: Packaging Specification; ComponentLink3URL: http://sg.renesas.com/media/products/common_info/package/pdf/diode/code/ptsp0002za_a.pdf
footprint PTSP0002ZA-A (SC-76; 2 Leads; Body 1.7x1.3mm, Renesas Recommended)
signal-integrity model HZU5BLL
pins: 1 K, 2 A

## HZU5CLL
designator D?
Silicon Epitaxial Planar Zener Diode for Hard Knee Low Noise; Published: 12-Feb-2010; DatasheetVersion: Rev.5.00, Oct-2007; PackageVersion: Sep-2005; PackageReference: PTSP0002ZA-A; Publisher: Altium Limited; PackageDescription: 2-Pin SC-76 Package, 1.7 x 1.3 mm Body; Code_JEITA: SC-76A; ComponentLink1Description: Manufacturer Link; ComponentLink1URL: http://sg.renesas.com/fmwk.jsp?cnt=diode_landing.jsp&fp=/products/discrete/diodes/; ComponentLink2Description: Datasheet; ComponentLink2URL: http://documentation.renesas.com/eng/products/diode/rej03g1216_hzu_llseries.pdf; ComponentLink3Description: Packaging Specification; ComponentLink3URL: http://sg.renesas.com/media/products/common_info/package/pdf/diode/code/ptsp0002za_a.pdf
footprint PTSP0002ZA-A (SC-76; 2 Leads; Body 1.7x1.3mm, Renesas Recommended)
signal-integrity model HZU5CLL
pins: 1 K, 2 A

## HZU6.2B
designator D?
Silicon Epitaxial Planar Zener Diodes for Stabilizer; Published: 12-Feb-2010; DatasheetVersion: Rev.9.00, Jul-2006; PackageVersion: Sep-2005; PackageReference: PTSP0002ZA-A; Publisher: Altium Limited; PackageDescription: 2-Pin SC-76 Package, 1.7 x 1.3 mm Body; Code_JEITA: SC-76A; ComponentLink1Description: Manufacturer Link; ComponentLink1URL: http://sg.renesas.com/fmwk.jsp?cnt=diode_landing.jsp&fp=/products/discrete/diodes/; ComponentLink2Description: Datasheet; ComponentLink2URL: http://documentation.renesas.com/eng/products/diode/rej03g0625_hzu.pdf; ComponentLink3Description: Packaging Specification; ComponentLink3URL: http://sg.renesas.com/media/products/common_info/package/pdf/diode/code/ptsp0002za_a.pdf
footprint PTSP0002ZA-A (SC-76; 2 Leads; Body 1.7x1.3mm, Renesas Recommended)
signal-integrity model HZU6.2B
pins: 1 K, 2 A

## HZU6.2B1
designator D?
Silicon Epitaxial Planar Zener Diodes for Stabilizer; Published: 12-Feb-2010; DatasheetVersion: Rev.9.00, Jul-2006; PackageVersion: Sep-2005; PackageReference: PTSP0002ZA-A; Publisher: Altium Limited; PackageDescription: 2-Pin SC-76 Package, 1.7 x 1.3 mm Body; Code_JEITA: SC-76A; ComponentLink1Description: Manufacturer Link; ComponentLink1URL: http://sg.renesas.com/fmwk.jsp?cnt=diode_landing.jsp&fp=/products/discrete/diodes/; ComponentLink2Description: Datasheet; ComponentLink2URL: http://documentation.renesas.com/eng/products/diode/rej03g0625_hzu.pdf; ComponentLink3Description: Packaging Specification; ComponentLink3URL: http://sg.renesas.com/media/products/common_info/package/pdf/diode/code/ptsp0002za_a.pdf
footprint PTSP0002ZA-A (SC-76; 2 Leads; Body 1.7x1.3mm, Renesas Recommended)
signal-integrity model HZU6.2B1
pins: 1 K, 2 A

## HZU6.2B2
designator D?
Silicon Epitaxial Planar Zener Diodes for Stabilizer; Published: 12-Feb-2010; DatasheetVersion: Rev.9.00, Jul-2006; PackageVersion: Sep-2005; PackageReference: PTSP0002ZA-A; Publisher: Altium Limited; PackageDescription: 2-Pin SC-76 Package, 1.7 x 1.3 mm Body; Code_JEITA: SC-76A; ComponentLink1Description: Manufacturer Link; ComponentLink1URL: http://sg.renesas.com/fmwk.jsp?cnt=diode_landing.jsp&fp=/products/discrete/diodes/; ComponentLink2Description: Datasheet; ComponentLink2URL: http://documentation.renesas.com/eng/products/diode/rej03g0625_hzu.pdf; ComponentLink3Description: Packaging Specification; ComponentLink3URL: http://sg.renesas.com/media/products/common_info/package/pdf/diode/code/ptsp0002za_a.pdf
footprint PTSP0002ZA-A (SC-76; 2 Leads; Body 1.7x1.3mm, Renesas Recommended)
signal-integrity model HZU6.2B2
pins: 1 K, 2 A

## HZU6.2B3
designator D?
Silicon Epitaxial Planar Zener Diodes for Stabilizer; Published: 12-Feb-2010; DatasheetVersion: Rev.9.00, Jul-2006; PackageVersion: Sep-2005; PackageReference: PTSP0002ZA-A; Publisher: Altium Limited; PackageDescription: 2-Pin SC-76 Package, 1.7 x 1.3 mm Body; Code_JEITA: SC-76A; ComponentLink1Description: Manufacturer Link; ComponentLink1URL: http://sg.renesas.com/fmwk.jsp?cnt=diode_landing.jsp&fp=/products/discrete/diodes/; ComponentLink2Description: Datasheet; ComponentLink2URL: http://documentation.renesas.com/eng/products/diode/rej03g0625_hzu.pdf; ComponentLink3Description: Packaging Specification; ComponentLink3URL: http://sg.renesas.com/media/products/common_info/package/pdf/diode/code/ptsp0002za_a.pdf
footprint PTSP0002ZA-A (SC-76; 2 Leads; Body 1.7x1.3mm, Renesas Recommended)
signal-integrity model HZU6.2B3
pins: 1 K, 2 A

## HZU6.2G
designator D?
Silicon Epitaxial Planar Zener Diode for Surge Absorption; Published: 12-Feb-2010; DatasheetVersion: Rev.3.00, Jun-2006; PackageVersion: Sep-2005; PackageReference: PTSP0002ZA-A; Publisher: Altium Limited; PackageDescription: 2-Pin SC-76 Package, 1.7 x 1.3 mm Body; Code_JEITA: SC-76A; ComponentLink1Description: Manufacturer Link; ComponentLink1URL: http://sg.renesas.com/fmwk.jsp?cnt=diode_landing.jsp&fp=/products/discrete/diodes/; ComponentLink2Description: Datasheet; ComponentLink2URL: http://documentation.renesas.com/eng/products/diode/rej03g1215_hzu_g.pdf; ComponentLink3Description: Packaging Specification; ComponentLink3URL: http://sg.renesas.com/media/products/common_info/package/pdf/diode/code/ptsp0002za_a.pdf
footprint PTSP0002ZA-A (SC-76; 2 Leads; Body 1.7x1.3mm, Renesas Recommended)
signal-integrity model HZU6.2G
pins: 1 K, 2 A

## HZU6.2Z
designator D?
Silicon Epitaxial Planar Zener Diode for Surge Absorption; Published: 12-Feb-2010; DatasheetVersion: Rev.2.00, Jun-2005; PackageVersion: Sep-2005; PackageReference: PTSP0002ZA-A; Publisher: Altium Limited; PackageDescription: 2-Pin SC-76 Package, 1.7 x 1.3 mm Body; Code_JEITA: SC-76A; ComponentLink1Description: Manufacturer Link; ComponentLink1URL: http://sg.renesas.com/fmwk.jsp?cnt=diode_landing.jsp&fp=/products/discrete/diodes/; ComponentLink2Description: Datasheet; ComponentLink2URL: http://documentation.renesas.com/eng/products/diode/rej03g1218_hzu62z.pdf; ComponentLink3Description: Packaging Specification; ComponentLink3URL: http://sg.renesas.com/media/products/common_info/package/pdf/diode/code/ptsp0002za_a.pdf
footprint PTSP0002ZA-A (SC-76; 2 Leads; Body 1.7x1.3mm, Renesas Recommended)
signal-integrity model HZU6.2Z
pins: 1 K, 2 A

## HZU6.8B
designator D?
Silicon Epitaxial Planar Zener Diodes for Stabilizer; Published: 12-Feb-2010; DatasheetVersion: Rev.9.00, Jul-2006; PackageVersion: Sep-2005; PackageReference: PTSP0002ZA-A; Publisher: Altium Limited; PackageDescription: 2-Pin SC-76 Package, 1.7 x 1.3 mm Body; Code_JEITA: SC-76A; ComponentLink1Description: Manufacturer Link; ComponentLink1URL: http://sg.renesas.com/fmwk.jsp?cnt=diode_landing.jsp&fp=/products/discrete/diodes/; ComponentLink2Description: Datasheet; ComponentLink2URL: http://documentation.renesas.com/eng/products/diode/rej03g0625_hzu.pdf; ComponentLink3Description: Packaging Specification; ComponentLink3URL: http://sg.renesas.com/media/products/common_info/package/pdf/diode/code/ptsp0002za_a.pdf
footprint PTSP0002ZA-A (SC-76; 2 Leads; Body 1.7x1.3mm, Renesas Recommended)
signal-integrity model HZU6.8B
pins: 1 K, 2 A

## HZU6.8B1
designator D?
Silicon Epitaxial Planar Zener Diodes for Stabilizer; Published: 12-Feb-2010; DatasheetVersion: Rev.9.00, Jul-2006; PackageVersion: Sep-2005; PackageReference: PTSP0002ZA-A; Publisher: Altium Limited; PackageDescription: 2-Pin SC-76 Package, 1.7 x 1.3 mm Body; Code_JEITA: SC-76A; ComponentLink1Description: Manufacturer Link; ComponentLink1URL: http://sg.renesas.com/fmwk.jsp?cnt=diode_landing.jsp&fp=/products/discrete/diodes/; ComponentLink2Description: Datasheet; ComponentLink2URL: http://documentation.renesas.com/eng/products/diode/rej03g0625_hzu.pdf; ComponentLink3Description: Packaging Specification; ComponentLink3URL: http://sg.renesas.com/media/products/common_info/package/pdf/diode/code/ptsp0002za_a.pdf
footprint PTSP0002ZA-A (SC-76; 2 Leads; Body 1.7x1.3mm, Renesas Recommended)
signal-integrity model HZU6.8B1
pins: 1 K, 2 A

## HZU6.8B2
designator D?
Silicon Epitaxial Planar Zener Diodes for Stabilizer; Published: 12-Feb-2010; DatasheetVersion: Rev.9.00, Jul-2006; PackageVersion: Sep-2005; PackageReference: PTSP0002ZA-A; Publisher: Altium Limited; PackageDescription: 2-Pin SC-76 Package, 1.7 x 1.3 mm Body; Code_JEITA: SC-76A; ComponentLink1Description: Manufacturer Link; ComponentLink1URL: http://sg.renesas.com/fmwk.jsp?cnt=diode_landing.jsp&fp=/products/discrete/diodes/; ComponentLink2Description: Datasheet; ComponentLink2URL: http://documentation.renesas.com/eng/products/diode/rej03g0625_hzu.pdf; ComponentLink3Description: Packaging Specification; ComponentLink3URL: http://sg.renesas.com/media/products/common_info/package/pdf/diode/code/ptsp0002za_a.pdf
footprint PTSP0002ZA-A (SC-76; 2 Leads; Body 1.7x1.3mm, Renesas Recommended)
signal-integrity model HZU6.8B2
pins: 1 K, 2 A

## HZU6.8B3
designator D?
Silicon Epitaxial Planar Zener Diodes for Stabilizer; Published: 12-Feb-2010; DatasheetVersion: Rev.9.00, Jul-2006; PackageVersion: Sep-2005; PackageReference: PTSP0002ZA-A; Publisher: Altium Limited; PackageDescription: 2-Pin SC-76 Package, 1.7 x 1.3 mm Body; Code_JEITA: SC-76A; ComponentLink1Description: Manufacturer Link; ComponentLink1URL: http://sg.renesas.com/fmwk.jsp?cnt=diode_landing.jsp&fp=/products/discrete/diodes/; ComponentLink2Description: Datasheet; ComponentLink2URL: http://documentation.renesas.com/eng/products/diode/rej03g0625_hzu.pdf; ComponentLink3Description: Packaging Specification; ComponentLink3URL: http://sg.renesas.com/media/products/common_info/package/pdf/diode/code/ptsp0002za_a.pdf
footprint PTSP0002ZA-A (SC-76; 2 Leads; Body 1.7x1.3mm, Renesas Recommended)
signal-integrity model HZU6.8B3
pins: 1 K, 2 A